# Altium schematic symbol library Lib.SchLib: 3 symbols
Pins are listed as number, name and electrical type; pins without a type are passive.

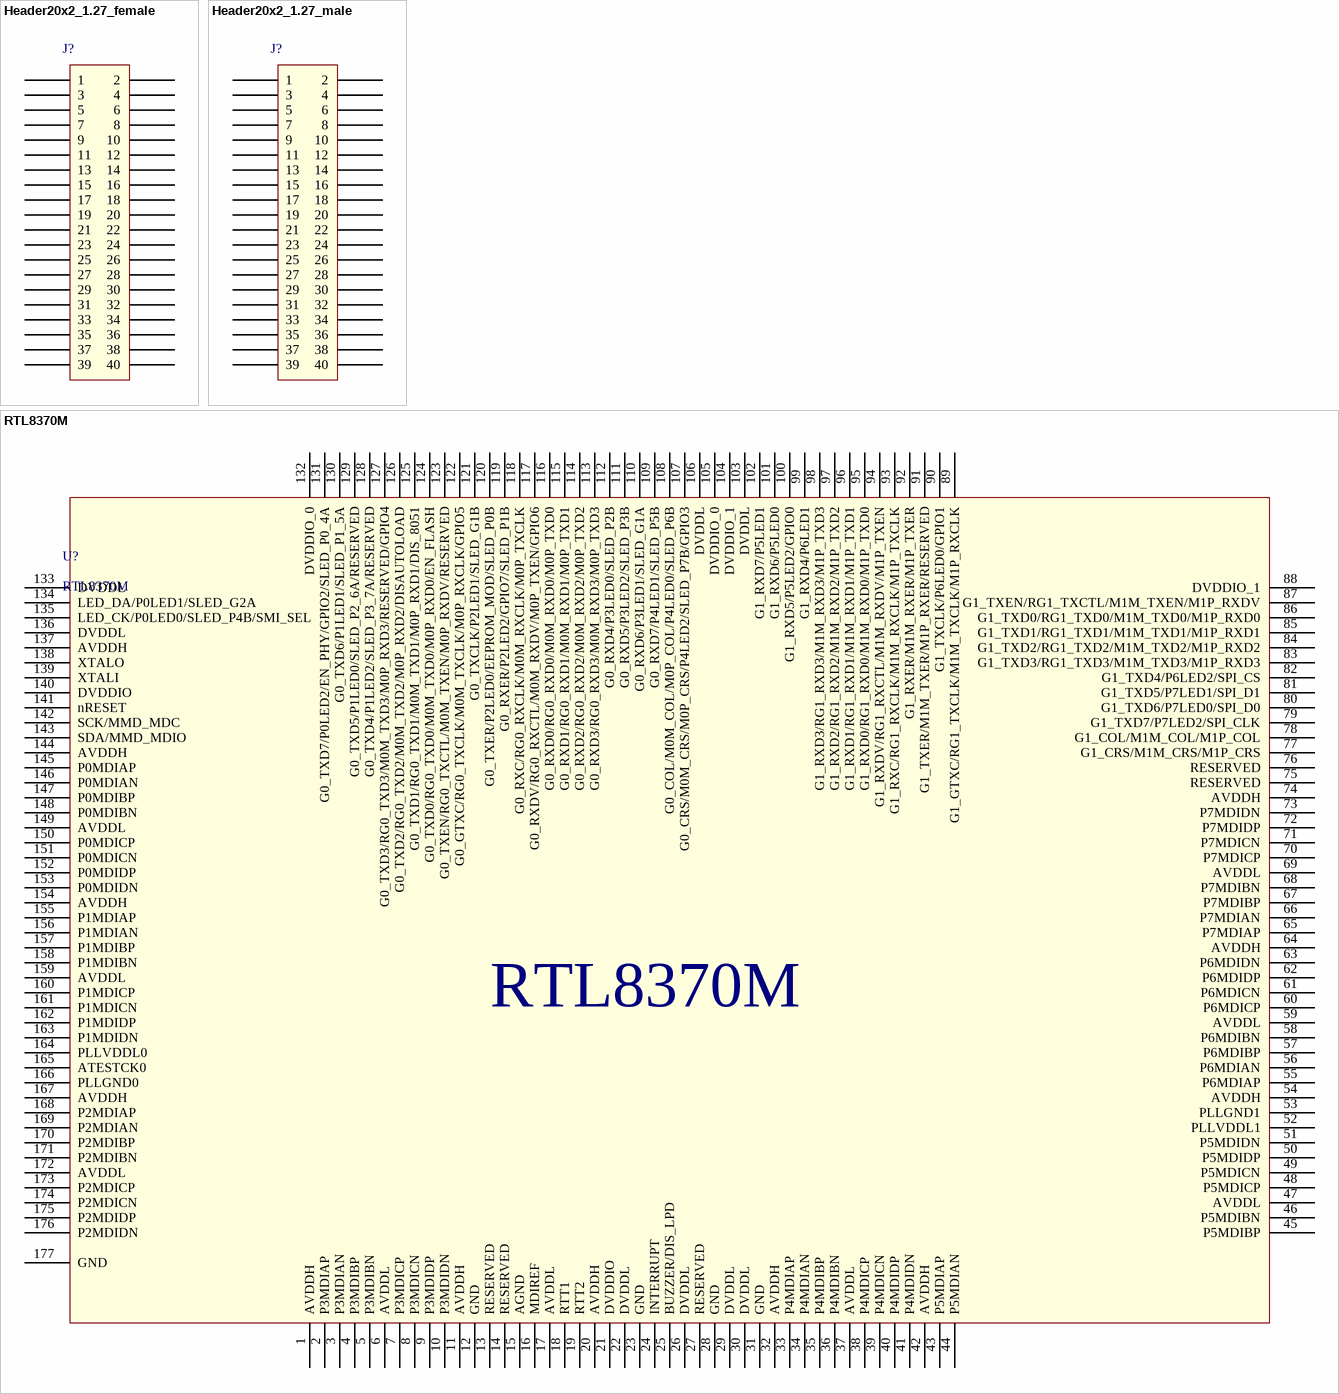
[diagram p0: symbols Header20x2_1.27_female to RTL8370M]

## Header20x2_1.27_female
designator J?  (value not drawn)
footprint 20021311-00040T4LF
pins: 1, 2, 3, 4, 5, 6, 7, 8, 9, 10, 11, 12, 13, 14, 15, 16, 17, 18, 19, 20, 21, 22, 23, 24, 25, 26, 27, 28, 29, 30, 31, 32, 33, 34, 35, 36, 37, 38, 39, 40

## Header20x2_1.27_male
designator J?  (value not drawn)
footprint 20021111-00040T4LF
pins: 1, 2, 3, 4, 5, 6, 7, 8, 9, 10, 11, 12, 13, 14, 15, 16, 17, 18, 19, 20, 21, 22, 23, 24, 25, 26, 27, 28, 29, 30, 31, 32, 33, 34, 35, 36, 37, 38, 39, 40

## RTL8370M
designator U?
footprint PLQP0176LA-B-M
pins: 1 AVDDH, 2 P3MDIAP, 3 P3MDIAN, 4 P3MDIBP, 5 P3MDIBN, 6 AVDDL, 7 P3MDICP, 8 P3MDICN, 9 P3MDIDP, 10 P3MDIDN, 11 AVDDH, 12 GND, 13 RESERVED, 14 RESERVED, 15 AGND, 16 MDIREF, 17 AVDDL, 18 RTT1, 19 RTT2, 20 AVDDH, 21 DVDDIO, 22 DVDDL, 23 GND, 24 INTERRUPT, 25 BUZZER/DIS_LPD, 26 DVDDL, 27 RESERVED, 28 GND, 29 DVDDL, 30 DVDDL, 31 GND, 32 AVDDH, 33 P4MDIAP, 34 P4MDIAN, 35 P4MDIBP, 36 P4MDIBN, 37 AVDDL, 38 P4MDICP, 39 P4MDICN, 40 P4MDIDP, 41 P4MDIDN, 42 AVDDH, 43 P5MDIAP, 44 P5MDIAN, 45 P5MDIBP, 46 P5MDIBN, 47 AVDDL, 48 P5MDICP, 49 P5MDICN, 50 P5MDIDP, 51 P5MDIDN, 52 PLLVDDL1, 53 PLLGND1, 54 AVDDH, 55 P6MDIAP, 56 P6MDIAN, 57 P6MDIBP, 58 P6MDIBN, 59 AVDDL, 60 P6MDICP, 61 P6MDICN, 62 P6MDIDP, 63 P6MDIDN, 64 AVDDH, 65 P7MDIAP, 66 P7MDIAN, 67 P7MDIBP, 68 P7MDIBN, 69 AVDDL, 70 P7MDICP, 71 P7MDICN, 72 P7MDIDP, 73 P7MDIDN, 74 AVDDH, 75 RESERVED, 76 RESERVED, 77 G1_CRS/M1M_CRS/M1P_CRS, 78 G1_COL/M1M_COL/M1P_COL, 79 G1_TXD7/P7LED2/SPI_CLK, 80 G1_TXD6/P7LED0/SPI_D0, 81 G1_TXD5/P7LED1/SPI_D1, 82 G1_TXD4/P6LED2/SPI_CS, 83 G1_TXD3/RG1_TXD3/M1M_TXD3/M1P_RXD3, 84 G1_TXD2/RG1_TXD2/M1M_TXD2/M1P_RXD2, 85 G1_TXD1/RG1_TXD1/M1M_TXD1/M1P_RXD1, 86 G1_TXD0/RG1_TXD0/M1M_TXD0/M1P_RXD0, 87 G1_TXEN/RG1_TXCTL/M1M_TXEN/M1P_RXDV, 88 DVDDIO_1, 89 G1_GTXC/RG1_TXCLK/M1M_TXCLK/M1P_RXCLK, 90 G1_TXCLK/P6LED0/GPIO1, 91 G1_TXER/M1M_TXER/M1P_RXER/RESERVED, 92 G1_RXER/M1M_RXER/M1P_TXER, 93 G1_RXC/RG1_RXCLK/M1M_RXCLK/M1P_TXCLK, 94 G1_RXDV/RG1_RXCTL/M1M_RXDV/M1P_TXEN, 95 G1_RXD0/RG1_RXD0/M1M_RXD0/M1P_TXD0, 96 G1_RXD1/RG1_RXD1/M1M_RXD1/M1P_TXD1, 97 G1_RXD2/RG1_RXD2/M1M_RXD2/M1P_TXD2, 98 G1_RXD3/RG1_RXD3/M1M_RXD3/M1P_TXD3, 99 G1_RXD4/P6LED1, 100 G1_RXD5/P5LED2/GPIO0, 101 G1_RXD6/P5LED0, 102 G1_RXD7/P5LED1, 103 DVDDL, 104 DVDDIO_1, 105 DVDDIO_0, 106 DVDDL, 107 G0_CRS/M0M_CRS/M0P_CRS/P4LED2/SLED_P7B/GPIO3, 108 G0_COL/M0M_COL/M0P_COL/P4LED0/SLED_P6B, 109 G0_RXD7/P4LED1/SLED_P5B, 110 G0_RXD6/P3LED1/SLED_G1A, 111 G0_RXD5/P3LED2/SLED_P3B, 112 G0_RXD4/P3LED0/SLED_P2B, 113 G0_RXD3/RG0_RXD3/M0M_RXD3/M0P_TXD3, 114 G0_RXD2/RG0_RXD2/M0M_RXD2/M0P_TXD2, 115 G0_RXD1/RG0_RXD1/M0M_RXD1/M0P_TXD1, 116 G0_RXD0/RG0_RXD0/M0M_RXD0/M0P_TXD0, 117 G0_RXDV/RG0_RXCTL/M0M_RXDV/M0P_TXEN/GPIO6, 118 G0_RXC/RG0_RXCLK/M0M_RXCLK/M0P_TXCLK, 119 G0_RXER/P2LED2/GPIO7/SLED_P1B, 120 G0_TXER/P2LED0/EEPROM_MOD/SLED_P0B, 121 G0_TXCLK/P2LED1/SLED_G1B, 122 G0_GTXC/RG0_TXCLK/M0M_TXCLK/M0P_RXCLK/GPIO5, 123 G0_TXEN/RG0_TXCTL/M0M_TXEN/M0P_RXDV/RESERVED, 124 G0_TXD0/RG0_TXD0/M0M_TXD0/M0P_RXD0/EN_FLASH, 125 G0_TXD1/RG0_TXD1/M0M_TXD1/M0P_RXD1/DIS_8051, 126 G0_TXD2/RG0_TXD2/M0M_TXD2/M0P_RXD2/DISAUTOLOAD, 127 G0_TXD3/RG0_TXD3/M0M_TXD3/M0P_RXD3/RESERVED/GPIO4, 128 G0_TXD4/P1LED2/SLED_P3_7A/RESERVED, 129 G0_TXD5/P1LED0/SLED_P2_6A/RESERVED, 130 G0_TXD6/P1LED1/SLED_P1_5A, 131 G0_TXD7/P0LED2/EN_PHY/GPIO2/SLED_P0_4A, 132 DVDDIO_0, 133 DVDDL, 134 LED_DA/P0LED1/SLED_G2A, 135 LED_CK/P0LED0/SLED_P4B/SMI_SEL, 136 DVDDL, 137 AVDDH, 138 XTALO, 139 XTALI, 140 DVDDIO, 141 nRESET, 142 SCK/MMD_MDC, 143 SDA/MMD_MDIO, 144 AVDDH, 145 P0MDIAP, 146 P0MDIAN, 147 P0MDIBP, 148 P0MDIBN, 149 AVDDL, 150 P0MDICP, 151 P0MDICN, 152 P0MDIDP, 153 P0MDIDN, 154 AVDDH, 155 P1MDIAP, 156 P1MDIAN, 157 P1MDIBP, 158 P1MDIBN, 159 AVDDL, 160 P1MDICP, 161 P1MDICN, 162 P1MDIDP, 163 P1MDIDN, 164 PLLVDDL0, 165 ATESTCK0, 166 PLLGND0, 167 AVDDH, 168 P2MDIAP, 169 P2MDIAN, 170 P2MDIBP, 171 P2MDIBN, 172 AVDDL, 173 P2MDICP, 174 P2MDICN, 175 P2MDIDP, 176 P2MDIDN, 177 GND